# Altium footprint library DK636 LED Display.PcbLib: 1 footprints
Each footprint in its own frame and in the unit in brackets; x right, y up, seen from the top. Pads: shape width x height; smd on the part's side, far side on the other; paste and mask are expansions set on the pad; w line width, h text height; cw(c..) or ccw(c..) is an arc to the next point about the centre after c.
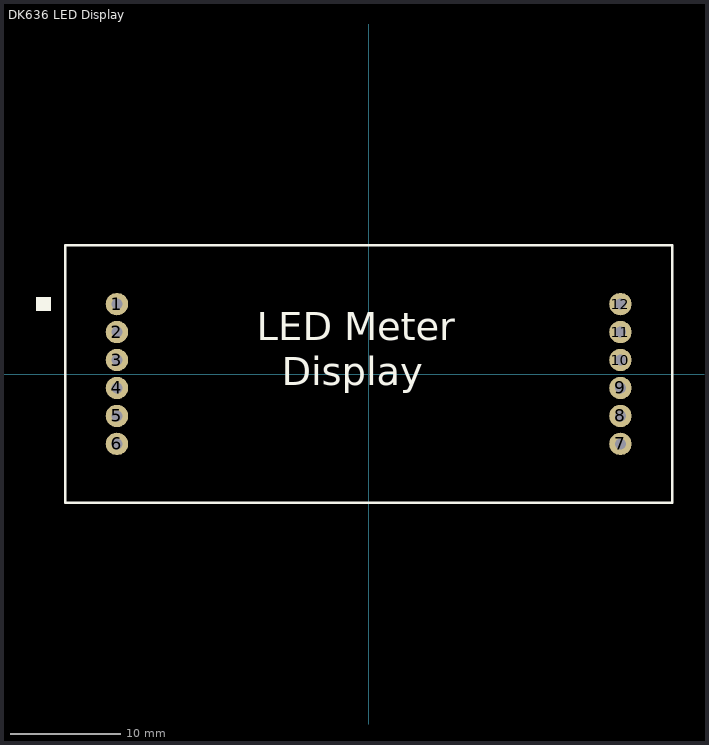
[diagram p0: the footprint, top view; thin cyan lines are the x and y axes]

## DK636 LED Display [mil]
pads (12):
  round 80 hole 40 mask+2.76: 1(-900,250) 2(-900,150) 3(-900,50) 4(-900,-50) 5(-900,-150) 6(-900,-250) 7(900,-250) 8(900,-150) 9(900,-50) 10(900,50) 11(900,150) 12(900,250)
Top Overlay:
  rectangle: -1190,225 -1135,275
  lines w10: -1085,-460 1085,-460 1085,460 -1085,460 -1085,-460
  text "LED Meter" at -400,120 h100
  text "Display" at -310,-40 h100